# EAGLE library part M08X2 (library SKAARHOJ)
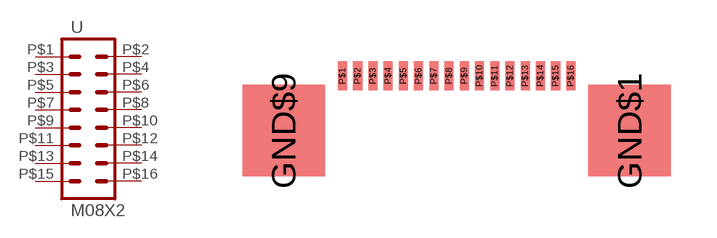
[diagram p79: symbol with the pads of ZIF-16-0.5; footprint ZIF-16-0.5]

Designator prefix -

## M08X2  [ZIF-16-0.5]
P$1  1  pas
P$2  2  pas
P$3  3  pas
P$4  4  pas
P$5  5  pas
P$6  6  pas
P$7  7  pas
P$8  8  pas
P$9  9  pas
P$10  10  pas
P$11  11  pas
P$12  12  pas
P$13  13  pas
P$14  14  pas
P$15  15  pas
P$16  16  pas

## Footprint ZIF-16-0.5 (pad centres in mm)
smd 2.7 x 3: GND$1 5.68,-1.8; GND$9 -5.68,-1.8
smd 0.3 x 0.96: P$1 -3.75,0; P$2 -3.25,0; P$3 -2.75,0; P$4 -2.25,0; P$5 -1.75,0; P$6 -1.25,0; P$7 -0.75,0; P$8 -0.25,0; P$9 0.25,0; P$10 0.75,0; P$11 1.25,0; P$12 1.75,0; P$13 2.25,0; P$14 2.75,0; P$15 3.25,0; P$16 3.75,0